# EAGLE library part DIP-BOX-HEADER(2X7P-2.54-90D) (library Seeed-OPL-Connector)
320150011
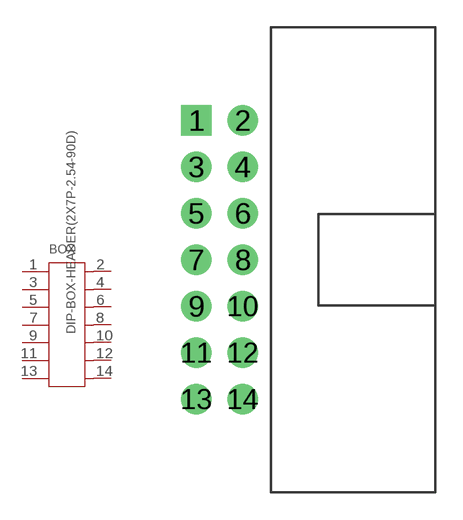
[diagram p144: symbol with the pads of BOX2X7-2.54-90D; footprint BOX2X7-2.54-90D]

Designator prefix BOX

## DIP-BOX-HEADER(2X7P-2.54-90D) (MPN: B190-114A0BRBA1; VALUE: 2x7p-2.54-90d)  [BOX2X7-2.54-90D]
1  P$1
2  P$2
3  P$3
4  P$4
5  P$5
6  P$6
7  P$7
8  P$8
9  P$9
10  P$10
11  P$11
12  P$12
13  P$13
14  P$14

## Footprint BOX2X7-2.54-90D (pad centres in mm)
drill 0.889 pad 1.651 square: 1 -1.27,7.62
drill 0.889 pad 1.651: 2 1.27,7.62; 3 -1.27,5.08; 4 1.27,5.08; 5 -1.27,2.54; 6 1.27,2.54; 7 -1.27,0; 8 1.27,0; 9 -1.27,-2.54; 10 1.27,-2.54; 11 -1.27,-5.08; 12 1.27,-5.08; 13 -1.27,-7.62; 14 1.27,-7.62